# Altium schematic symbol library METEN.SchLib: 4 symbols
Pins are listed as number, name and electrical type; pins without a type are passive.

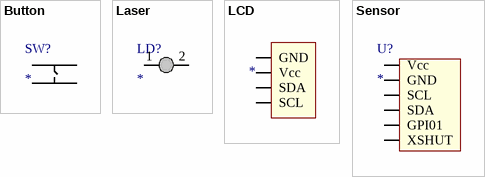
[diagram p0: symbols Button to Sensor]

## Button
designator SW?
footprint BUTTON
pins: 1, 2, 3, 4

## Laser
designator LD?
footprint laser
pins: 1 +, 2 -

## LCD
designator DS?
footprint LCD3V3 (Pinheader 4pin 90° vr LCD)
pins: 1 SCL (io), 2 SDA (io), 3 Vcc (power), 4 GND (power)

## Sensor
designator U?
footprint Vl53l1x (Sensor pinheader)
pins: 1 Vcc (power), 2 GND (power), 3 SCL (io), 4 SDA (io), 5 GPI01 (io), 6 XSHUT (io)